# Altium footprint library Resistor_Shunt_Pcb.PcbLib: 2 footprints
Each footprint in its own frame and in the unit in brackets; x right, y up, seen from the top. Pads: shape width x height; smd on the part's side, far side on the other; paste and mask are expansions set on the pad; w line width, h text height; cw(c..) or ccw(c..) is an arc to the next point about the centre after c.
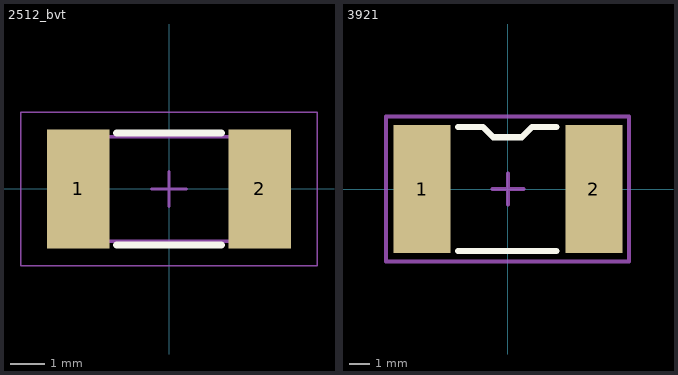
[diagram p0: the footprints below, top view; thin cyan lines are the x and y axes]

## 2512_bvt [mm] "Chip Resistor, 2-Leads, Body 6.35x3.00mm, IPC Low Density"
height 1
pads (2):
  rect 1.8x3.4 smd: 1(-2.6,0) 2(2.6,0)
Top Overlay:
  lines w0.2: -1.5,-1.6 1.5,-1.6 ; -1.5,1.6 1.5,1.6
Mechanical 13:
  lines w0.1: -3.175,-1.5 -3.175,1.5 3.175,1.5 3.175,-1.5 -3.175,-1.5
  text "'.designator'" at -3,-1.212 h1
Mechanical 15:
  lines w0.05: -4.25,-2.2 -4.25,2.2 4.25,2.2 4.25,-2.2 -4.25,-2.2
  lines w0.1: -0.5,0 0.5,0 ; 0,-0.5 0,0.5
3D body "2512_BVT_SHUNT.step": height 1.02, standoff 0.19, extent -3.175,-1.525 3.175,1.525

## 3921 [mm]
pads (2):
  rect 2.75x6.2 smd: 1(-4.15,0) 2(4.15,0)
Top Overlay:
  lines w0.3: -2.4,-3 2.35,-3 ; -2.4,3 -1.212,3 -0.713,2.5 0.663,2.5 1.162,3 2.35,3
Mechanical 13:
  lines w0.2: -5.9,-3.5 5.85,-3.5 5.85,3.5 -5.9,3.5 -5.9,-3.5
Mechanical 15:
  lines w0.2: -0.75,0 0.75,0 ; 0,-0.75 0,0.75 ; -5.9,-3.5 5.85,-3.5 5.85,3.5 -5.9,3.5 -5.9,-3.5
3D body "CSS2H-3920.step": height 1.11, standoff 0.01, extent -4.975,-2.6 5.025,2.6